# Altium footprint library rcl.PCBLIB: 489 footprints (part 8 of 31)
Each footprint in its own frame and in the unit in brackets; x right, y up, seen from the top. Pads: shape width x height; smd on the part's side, far side on the other; paste and mask are expansions set on the pad; w line width, h text height; cw(c..) or ccw(c..) is an arc to the next point about the centre after c.
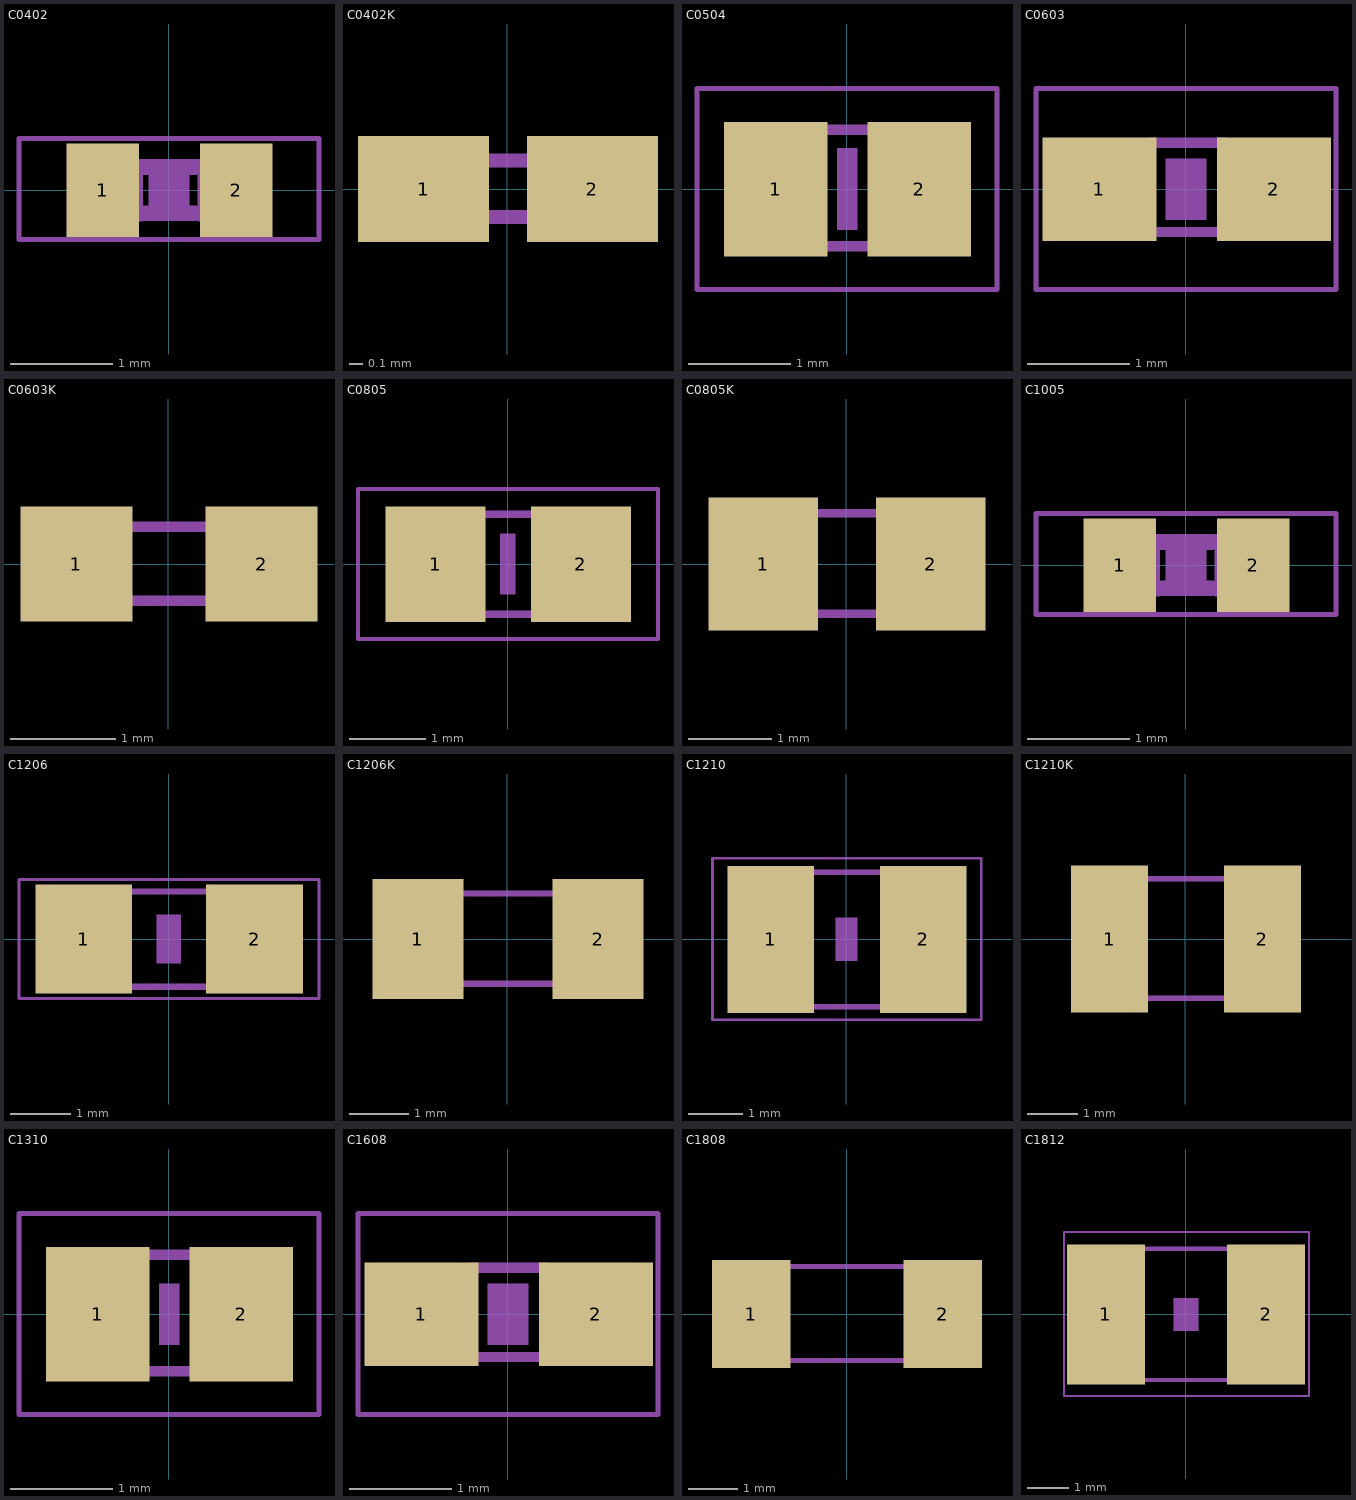
[diagram p7: the footprints below, top view; thin cyan lines are the x and y axes]

## C0402 [mil]
pads (2):
  rect 28x36 smd: 1(-25.59,0) 2(26,0)
Mechanical 6:
  rectangle: -7.87,-11.81 8,12
Mechanical 16:
  rectangle: -21.81,-12 -10,12
  rectangle: 11,-12 22,12
  lines w6: -9.65,-8.82 10,-8.82 ; -9.65,9 10,9
Mechanical 27:
  lines w2: -57.99,-19.02 58,-19.02 58,20 -57.99,20 -57.99,-19.02

## C0402K [mil]
pads (2):
  rect 37x30 smd: 1(-23.62,0) 2(24,0)
Mechanical 16:
  rectangle: -19.68,-9.84 -8.86,10
  rectangle: 9,-9.84 20,10
  lines w4: -16.73,-7.87 17,-7.87 ; -16.73,8 17,8

## C0504 [mil]
pads (2):
  rect 40x52 smd: 1(-27.56,0) 2(28,0)
Mechanical 6:
  rectangle: -3.94,-15.75 4,16
Mechanical 16:
  rectangle: -26,-24.5 -11.04,25
  rectangle: 11,-24.5 26,25
  lines w4: -11.57,-22.01 12,-22.01 ; -11.57,23 12,23
Mechanical 27:
  lines w2: -57.99,-38.7 58,-38.7 58,39 -57.99,39 -57.99,-38.7

## C0603 [mil]
pads (2):
  rect 44x40 smd: 1(-33.46,0) 2(34,0)
Mechanical 6:
  rectangle: -7.87,-11.81 8,12
Mechanical 16:
  rectangle: -33,-18.5 -13.31,19
  rectangle: 13,-18.5 33,19
  lines w4: -14.02,-16.5 15,-16.5 ; -14.02,18 15,18
Mechanical 27:
  lines w2: -57.99,-38.7 58,-38.7 58,39 -57.99,39 -57.99,-38.7

## C0603K [mil]
pads (2):
  rect 42x43 smd: 1(-34.45,0) 2(35,0)
Mechanical 16:
  rectangle: -31.5,-15.75 -17.72,16
  rectangle: 18,-15.75 32,16
  lines w4: -28.54,-13.78 29,-13.78 ; -28.54,14 29,14

## C0805 [mil]
pads (2):
  rect 52x60 smd: 1(-37.4,0) 2(38,0)
Mechanical 6:
  rectangle: -3.94,-15.75 4,16
Mechanical 16:
  rectangle: -43,-28.5 -13.47,29
  rectangle: 14,-28.5 44,29
  lines w4: -15,26 15,26 ; -14.02,-25.98 15,-25.98
Mechanical 27:
  lines w2: -77.68,-38.7 78,-38.7 78,39 -77.68,39 -77.68,-38.7

## C0805K [mil]
pads (2):
  rect 52x63 smd: 1(-39.37,0) 2(40,0)
Mechanical 16:
  rectangle: -39.37,-25.59 -19.68,26
  rectangle: 20,-25.59 40,26
  lines w4: -36.42,-23.62 37,-23.62 ; -36.42,24 37,24

## C1005 [mil]
pads (2):
  rect 28x36 smd: 1(-25.59,0) 2(26,0)
Mechanical 6:
  rectangle: -7.87,-11.81 8,12
Mechanical 16:
  rectangle: -21.81,-12 -10,12
  rectangle: 11,-12 22,12
  lines w6: -9.65,-8.82 10,-8.82 ; -9.65,9 10,9
Mechanical 27:
  lines w2: -57.99,-19.02 58,-19.02 58,20 -57.99,20 -57.99,-19.02

## C1206 [mil]
pads (2):
  rect 63x71 smd: 1(-55.12,0) 2(56,0)
Mechanical 6:
  rectangle: -7.87,-15.75 8,16
Mechanical 16:
  rectangle: -67,-33.5 -37.47,34
  rectangle: 38,-33.43 67,34
  lines w4: -37.99,-30.98 38,-30.98 ; -37.99,31 38,31
Mechanical 27:
  lines w2: -97.36,-38.7 98,-38.7 98,39 -97.36,39 -97.36,-38.7

## C1206K [mil]
pads (2):
  rect 60x79 smd: 1(-59.06,0) 2(60,0)
Mechanical 16:
  rectangle: -62.99,-31.5 -43.31,32
  rectangle: 44,-31.5 63,32
  lines w4: -60.04,-29.53 61,-29.53 ; -60.04,30 61,30

## C1210 [mil]
pads (2):
  rect 63x107 smd: 1(-55.12,0) 2(56,0)
Mechanical 6:
  rectangle: -7.87,-15.75 8,16
Mechanical 16:
  rectangle: -67,-51 -37.47,52
  rectangle: 38,-51.36 67,51
  lines w4: -38,-49 38,-49 ; -38,49 38,49
Mechanical 27:
  lines w2: -97.36,-58.39 98,-58.39 98,59 -97.36,59 -97.36,-58.39

## C1210K [mil]
pads (2):
  rect 60x115 smd: 1(-59.06,0) 2(60,0)
Mechanical 16:
  rectangle: -62.99,-49.21 -43.31,50
  rectangle: 44,-49.21 63,50
  lines w4: -60.04,-46.26 61,-46.26 ; -60.04,47 61,47

## C1310 [mil]
pads (2):
  rect 40x52 smd: 1(-27.56,0) 2(28,0)
Mechanical 6:
  rectangle: -3.94,-11.81 4,12
Mechanical 16:
  rectangle: -26,-24.5 -11.04,25
  rectangle: 11,-24.5 26,25
  lines w4: -11.57,-22.01 12,-22.01 ; -11.57,23 12,23
Mechanical 27:
  lines w2: -57.99,-38.7 58,-38.7 58,39 -57.99,39 -57.99,-38.7

## C1608 [mil]
pads (2):
  rect 44x40 smd: 1(-33.46,0) 2(34,0)
Mechanical 6:
  rectangle: -7.87,-11.81 8,12
Mechanical 16:
  rectangle: -33,-18.5 -13.31,19
  rectangle: 13,-18.5 33,19
  lines w4: -14.02,-16.5 15,-16.5 ; -14.02,18 15,18
Mechanical 27:
  lines w2: -57.99,-38.7 58,-38.7 58,39 -57.99,39 -57.99,-38.7

## C1808 [mil]
pads (2):
  rect 63x87 smd: 1(-76.77,0) 2(77,0)
Mechanical 16:
  rectangle: -89.57,-39.96 -48.23,40
  rectangle: 49,-39.96 90,40
  lines w4: -58,38 58,38 ; -57,-37.41 58,-37.41

## C1812 [mil]
pads (2):
  rect 75x134 smd: 1(-76.77,0) 2(77,0)
Mechanical 6:
  rectangle: -11.81,-15.75 12,16
Mechanical 16:
  rectangle: -94,-65 -56.6,65
  rectangle: 57,-65 95,65
  lines w4: -58,63 58,63 ; -57,-63 58,-63
Mechanical 27:
  lines w2: -117.05,-78.07 118,-78.07 118,79 -117.05,79 -117.05,-78.07